# Altium schematic symbol library Helianthus 2.1 Schematics.SchLib: 23 symbols
Pins are listed as number, name and electrical type; pins without a type are passive.

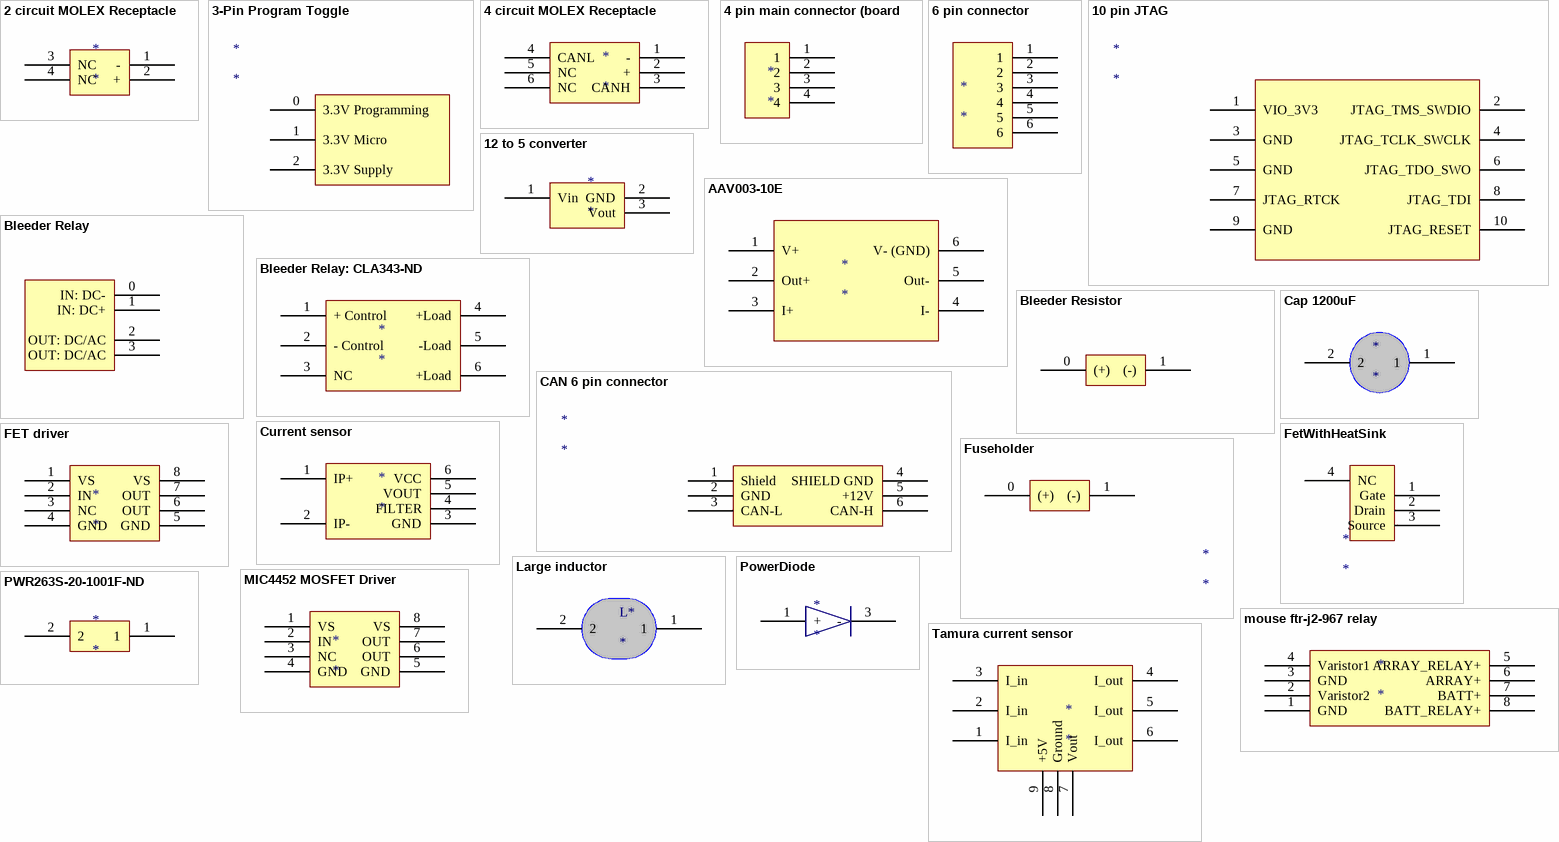
[diagram p0: symbols 2 circuit MOLEX Receptacle to Tamura current sensor]

## 2 circuit MOLEX Receptacle
designator *
footprint 2 circuit MOLEX Receptacle
pins: 1 -, 2 +, 3 NC, 4 NC

## 3-Pin Program Toggle
designator *
footprint 3-Pin Program Toggle
pins: 0 3.3V Programming, 1 3.3V Micro, 2 3.3V Supply

## 4 circuit MOLEX Receptacle
designator *
footprint 4 circuit MOLEX Receptacle
pins: 1 -, 2 +, 3 CANH, 4 CANL, 5 NC, 6 NC

## 4 pin main connector (board
designator *
footprint 4 pin Main connector (board)
pins: 1, 2, 3, 4

## 6 pin connector
designator *
footprint 6 pin connector
pins: 1, 2, 3, 4, 5, 6

## 10 pin JTAG
designator *
footprint 10 Pin JTAG/SWD
pins: 1 VIO_3V3, 2 JTAG_TMS_SWDIO, 3 GND, 4 JTAG_TCLK_SWCLK, 5 GND, 6 JTAG_TDO_SWO, 7 JTAG_RTCK, 8 JTAG_TDI, 9 GND, 10 JTAG_RESET

## 12 to 5 converter
designator *
footprint 12 to 5
pins: 1 Vin, 2 GND, 3 Vout

## AAV003-10E
designator *
footprint AAV003-10E
pins: 1 V+, 2 Out+, 3 I+, 4 I-, 5 Out-, 6 V- (GND)

## Bleeder Relay
designator *
footprint Bleeder Relay
pins: 0 IN: DC-, 1 IN: DC+, 2 OUT: DC/AC, 3 OUT: DC/AC

## Bleeder Relay: CLA343-ND
designator *
pins: 1 + Control, 2 - Control, 3 NC, 4 +Load, 5 -Load, 6 +Load

## Bleeder Resistor
designator *
footprint Bleeder Resistor
pins: 0 (+), 1 (-)

## CAN 6 pin connector
designator *
footprint CAN 6 pin connector
pins: 1 Shield, 2 GND, 3 CAN-L, 4 SHIELD GND, 5 +12V, 6 CAN-H

## Cap 1200uF
designator *
footprint LargeCap
pins: 1, 2

## Current sensor
designator *
footprint Current sensor
pins: 1 IP+, 2 IP-, 3 GND, 4 FILTER, 5 VOUT, 6 VCC

## FET driver
designator *
footprint FET Driver
pins: 1 VS, 2 IN, 3 NC, 4 GND, 5 GND, 6 OUT, 7 OUT, 8 VS

## FetWithHeatSink
designator *
footprint FetWithHeatSink
pins: 1 Gate, 2 Drain, 3 Source, 4 NC

## Fuseholder
designator *
footprint Fuseholder
pins: 0 (+), 1 (-)

## Large inductor
designator L*
footprint Large Inductor
pins: 1, 2

## MIC4452 MOSFET Driver
designator *
pins: 1 VS, 2 IN, 3 NC, 4 GND, 5 GND, 6 OUT, 7 OUT, 8 VS

## mouse ftr-j2-967 relay
designator *
pins: 1 GND, 2 Varistor2 , 3 GND, 4 Varistor1 , 5 ARRAY_RELAY+, 6 ARRAY+, 7 BATT+, 8 BATT_RELAY+

## PowerDiode
designator *
footprint PowerDiode
pins: 1 +, 3 -

## PWR263S-20-1001F-ND
designator *
footprint PWR263S-20-1001F-ND
pins: 1, 2

## Tamura current sensor
designator *
footprint S22P Tamura Hall Effect
pins: 1 I_in, 2 I_in, 3 I_in, 4 I_out, 5 I_out, 6 I_out, 7 Vout, 8 Ground, 9 +5V